# Altium footprint library Connectors.PcbLib: 67 footprints (part 3 of 5)
Each footprint in its own frame and in the unit in brackets; x right, y up, seen from the top. Pads: shape width x height; smd on the part's side, far side on the other; paste and mask are expansions set on the pad; w line width, h text height; cw(c..) or ccw(c..) is an arc to the next point about the centre after c.
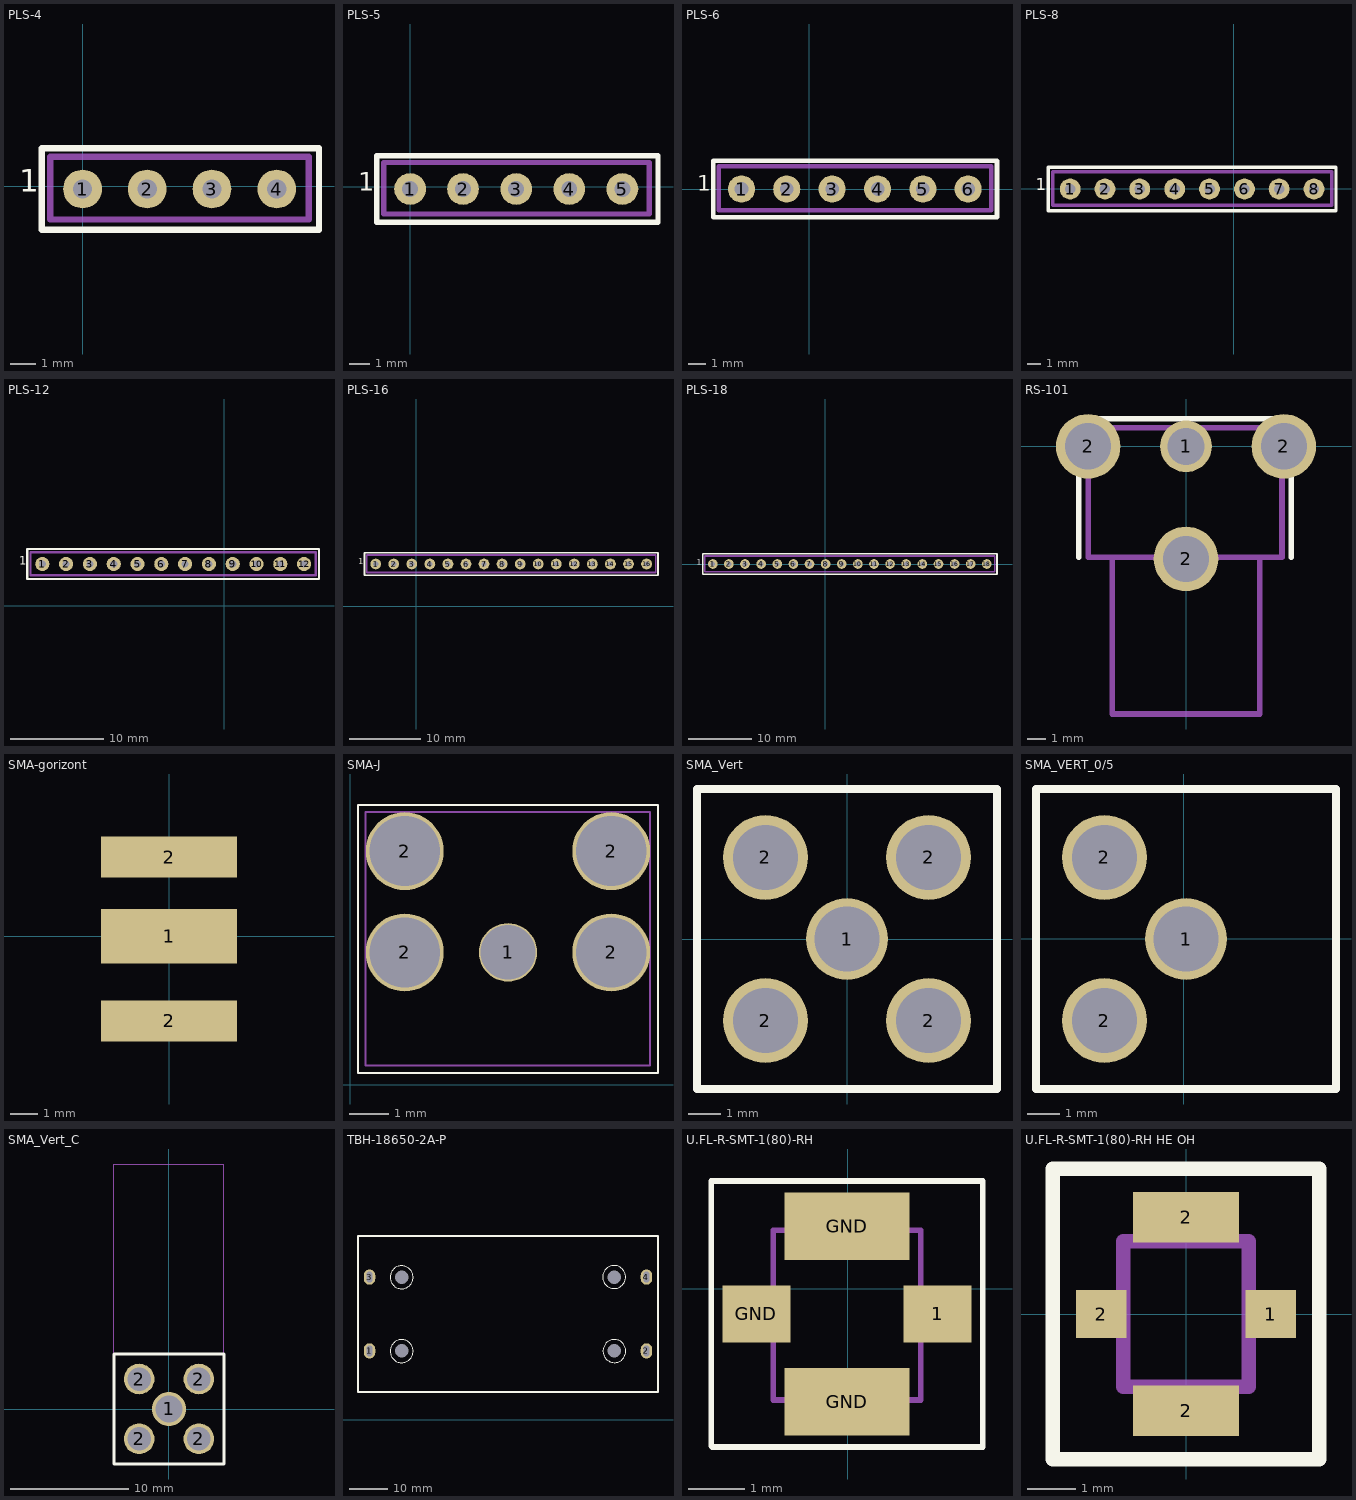
[diagram p2: the footprints below, top view; thin cyan lines are the x and y axes]

## PLS-4 [mil]
pads (4):
  round 60 hole 30: 1(0,-3.94) 2(100,-3.94) 3(200.39,-3.94) 4(300.79,-3.94)
Top Overlay:
  lines w10: -62.99,-66.93 366.14,-66.93 366.14,59.06 -62.99,59.06 -62.99,-66.93
  text "1" at -98.43,-19.68 h60
Mechanical 15:
  lines w10: -50,-51.18 -50,46.06 350,46.06 350,-51.18 -50,-51.18
3D body: height 413.39, standoff 0, extent -50,-52.36 350,46.06

## PLS-5 [mil]
pads (5):
  round 60 hole 30: 1(0,-3.94) 2(100,-3.94) 3(200.39,-3.94) 4(300.79,-3.94) 5(401.18,-3.94)
Top Overlay:
  lines w10: -62.99,-66.93 468.5,-66.93 468.5,59.06 -62.99,59.06 -62.99,-66.93
  text "1" at -98.43,-19.68 h60
Mechanical 15:
  lines w10: -50,-51.18 451.77,-51.18 451.77,46.06 -50,46.06 -50,-51.18
3D body: height 413.39, standoff 0, extent -50,-52.36 451.77,46.06

## PLS-6 [mil]
pads (6):
  round 60 hole 30: 1(-150,0.79) 2(-50,0.79) 3(50.39,0.79) 4(150.79,0.79) 5(251.18,0.79) 6(351.18,0.79)
Top Overlay:
  lines w10: -212.99,-62.2 414.96,-62.2 414.96,63.78 -212.99,63.78 -212.99,-62.2
  text "1" at -248.43,-14.96 h60
Mechanical 15:
  lines w10: -200,-46.46 401.97,-46.46 401.97,50.79 -200,50.79 -200,-46.46
3D body: height 413.39, standoff 0, extent -200,-47.64 401.97,50.79

## PLS-8 [mil]
pads (8):
  round 60 hole 30: 1(-471.1,-1.24) 2(-371.1,-1.24) 3(-270.7,-1.24) 4(-170.31,-1.24) 5(-69.92,-1.24) 6(30.48,-1.24) 7(130.48,-1.24) 8(230.87,-1.24)
Top Overlay:
  lines w10: -534.09,-64.23 -534.09,61.76 294.09,61.76 294.09,-64.23 -534.09,-64.23
  text "1" at -569.52,-16.98 h59.06
Mechanical 15:
  lines w10: -521.1,-48.48 -521.1,48.76 281.5,48.76 281.5,-48.48 -521.1,-48.48
3D body: height 413.39, standoff 0, extent -521.1,-49.66 281.89,48.76

## PLS-12 [mil]
pads (12):
  round 60 hole 30: 1(-767.3,176.27) 2(-667.3,176.27) 3(-566.91,176.27) 4(-466.52,176.27) 5(-366.12,176.27) 6(-265.73,176.27) 7(-165.73,176.27) 8(-65.33,176.27) 9(35.06,176.27) 10(135.45,176.27) 11(235.85,176.27) 12(335.85,176.27)
Top Overlay:
  lines w10: -830.3,113.28 -830.3,239.26 398.82,239.26 398.82,113.28 -830.3,113.28
  text "1" at -865.73,160.52 h60
Mechanical 15:
  lines w10: -817.3,129.02 -817.3,226.27 385.83,226.27 385.83,129.02 -817.3,129.02
3D body: height 413.39, standoff 0, extent -817.3,127.84 386.22,226.27

## PLS-16 [mil]
pads (16):
  round 60 hole 30: 1(-226.38,235.83) 2(-126.38,235.83) 3(-25.98,235.83) 4(74.41,235.83) 5(174.8,235.83) 6(275.2,235.83) 7(375.2,235.83) 8(475.59,235.83) 9(575.98,235.83) 10(676.38,235.83) 11(776.77,235.83) 12(876.77,235.83) 13(977.17,235.83) 14(1077.56,235.83) 15(1177.95,235.83) 16(1278.35,235.83)
Top Overlay:
  lines w10: -289.37,172.83 1341.73,172.83 1341.73,298.82 -289.37,298.82 -289.37,172.83
  text "1" at -324.8,220.08 h60
Mechanical 15:
  lines w10: -276.38,188.58 1328.74,188.58 1328.74,285.83 -276.38,285.83 -276.38,188.58
3D body: height 413.39, standoff 0, extent -276.38,187.4 1328.74,285.83

## PLS-18 [mil]
pads (18):
  round 60 hole 30: 1(-698.43,1.18) 2(-598.43,1.18) 3(-498.03,1.18) 4(-397.64,1.18) 5(-297.24,1.18) 6(-196.85,1.18) 7(-96.85,1.18) 8(3.54,1.18) 9(103.94,1.18) 10(204.33,1.18) 11(304.72,1.18) 12(404.72,1.18) 13(505.12,1.18) 14(605.51,1.18) 15(705.91,1.18) 16(806.3,1.18) 17(906.3,1.18) 18(1006.3,1.18)
Top Overlay:
  lines w10: -761.42,-61.81 -761.42,64.17 1070.08,64.17 1070.08,-61.81 -761.42,-61.81
  text "1" at -796.85,-14.57 h60
Mechanical 15:
  lines w10: -748.43,-46.06 -748.43,51.18 1056.69,51.18 1056.69,-46.06 -748.43,-46.06
3D body: height 413.39, standoff 0, extent -748.43,-47.24 1056.69,51.18

## RS-101 [mm]
pads (4):
  round 2.8 hole 2: 1(0,0)
  round 3.5 hole 2.5: 2(-5.3,0) 2(0,-6.1) 2(5.3,0)
Top Overlay:
  lines w0.3: -5.8,-6 -5.8,1.5 ; -5.7,1.5 5.7,1.5 5.7,-6
Mechanical 15:
  lines w0.3: -4,-6 -4,-14.5 4,-14.5 4,-6 ; -5.3,-6 -5.3,1 5.2,1 5.2,-6 -5.3,-6

## SMA-gorizont [mm]
pads (3):
  rect 5x2 smd: 1(0,0)
  rect 5x1.5 all layers, no hole: 2(0,-3.1) 2(0,2.9)

## SMA-J [mm]
pads (5):
  round 1.5 / inner round 0 / far side round 0 hole 1.4 mask+0.2: 1(4.05,3.4)
  round 2 / inner round 0 / far side round 0 hole 1.8 mask+0.2: 2(1.4,3.4) 2(1.4,6) 2(6.7,3.4) 2(6.7,6)
Top Overlay:
  lines w0.05: 0.2,0.3 0.2,7.19 7.9,7.19 7.9,0.3 0.2,0.3
Mechanical 15:
  lines w0.05: 0.39,0.5 0.39,7 7.7,7 7.7,0.5 0.39,0.5

## SMA_Vert [mm]
pads (5):
  round 2.5 hole 2: 1(0,0)
  round 2.6 hole 2: 2(-2.5,-2.5) 2(-2.5,2.5) 2(2.5,-2.5) 2(2.5,2.5)
Top Overlay:
  lines w0.254: -4.6,-4.6 -4.6,4.6 4.6,4.6 4.6,-4.6 -4.6,-4.6
Bottom Overlay:
  lines w0.254: -4.6,-4.6 4.6,-4.6 4.6,4.6 -4.6,4.6 -4.6,-4.6

## SMA_VERT_0/5 [mm]
pads (3):
  round 2.5 hole 2: 1(0.07,-0.01)
  round 2.6 hole 2: 2(-2.43,-2.51) 2(-2.43,2.49)
Top Overlay:
  lines w0.254: -4.53,-4.61 4.67,-4.61 4.67,4.59 -4.53,4.59 -4.53,-4.61
Bottom Overlay:
  lines w0.254: -4.53,-4.61 -4.53,4.59 4.67,4.59 4.67,-4.61 -4.53,-4.61

## SMA_Vert_C [mm]
pads (5):
  round 2.9 hole 2.3: 1(0.04,0.04)
  round 2.6 hole 2: 2(-2.5,-2.5) 2(-2.5,2.58) 2(2.58,-2.5) 2(2.58,2.58)
Top Overlay:
  lines w0.254: -4.63,-4.63 -4.63,4.71 4.71,4.71 4.71,-4.63 -4.63,-4.63
Mechanical 15:
  lines w0.1: -4.63,4.69 -4.63,20.83 4.69,20.83 4.69,4.69

## TBH-18650-2A-P [mm] "Батарейный отсек под две батареи 18650"
pads (8):
  oval 3x4 hole 1.5 slot 2.8 at 90 deg: 1(16.175,17.93) 2(88.545,17.93) 3(16.175,37.23) 4(88.545,37.23)
  round 0 hole 3.5: 9(24.56,17.93) 9(24.56,37.23) 9(80.16,17.93) 9(80.165,37.235)
Top Overlay:
  circle w0.254: c24.57,37.17 r3
  circle w0.254: c24.565,17.875 r3
  circle w0.254: c80.09,37.245 r3
  circle w0.254: c80.165,17.895 r3
  lines w0.5: 13.155,7.23 13.155,47.93 91.555,47.93 91.56,47.925 91.56,7.23 13.155,7.23
Bottom Overlay:
  text "+" at 15.49,40.289 h1.52
  text "+" at 15.924,20.98 h1.52
3D body: height 0.25, standoff 0, extent 13.41,7.48 91.31,47.68
3D body: height 0.35, standoff 0, extent 13.2,7.2 91.5,47.9

## U.FL-R-SMT-1(80)-RH [mm]
pads (4):
  rect 1.2x1 smd: 1(1.59,-0.45) GND(-1.61,-0.45)
  rect 2.2x1.2 smd: GND(-0.01,-2) GND(-0.01,1.1)
Top Overlay:
  lines w0.1: -2.41,-2.78 -2.39,-2.8 2.39,-2.8 2.39,1.9 -2.41,1.9 -2.41,-2.78
Mechanical 15:
  lines w0.1: -1.31,-1.97 -1.31,1.03 1.29,1.03 1.29,-1.97 -1.31,-1.97
3D body: height 1.3, standoff 0, extent -1.31,-1.97 1.28,1.02

## U.FL-R-SMT-1(80)-RH НЕ ОН [mm]
pads (4):
  rect 1.05x1 smd: 1(1.75,0) 2(-1.75,0)
  rect 2.2x1.05 smd: 2(0,-2) 2(0,2)
Top Overlay:
  lines w0.3: -2.75,-3 -2.75,3 2.75,3 2.75,-3 -2.75,-3
Mechanical 15:
  lines w0.3: -1.3,-1.5 -1.3,1.5 1.3,1.5 1.3,-1.5 -1.3,-1.5